# Altium footprint library custom-case.PcbLib: 44 footprints (part 1 of 3)
Each footprint in its own frame and in the unit in brackets; x right, y up, seen from the top. Pads: shape width x height; smd on the part's side, far side on the other; paste and mask are expansions set on the pad; w line width, h text height; cw(c..) or ccw(c..) is an arc to the next point about the centre after c.
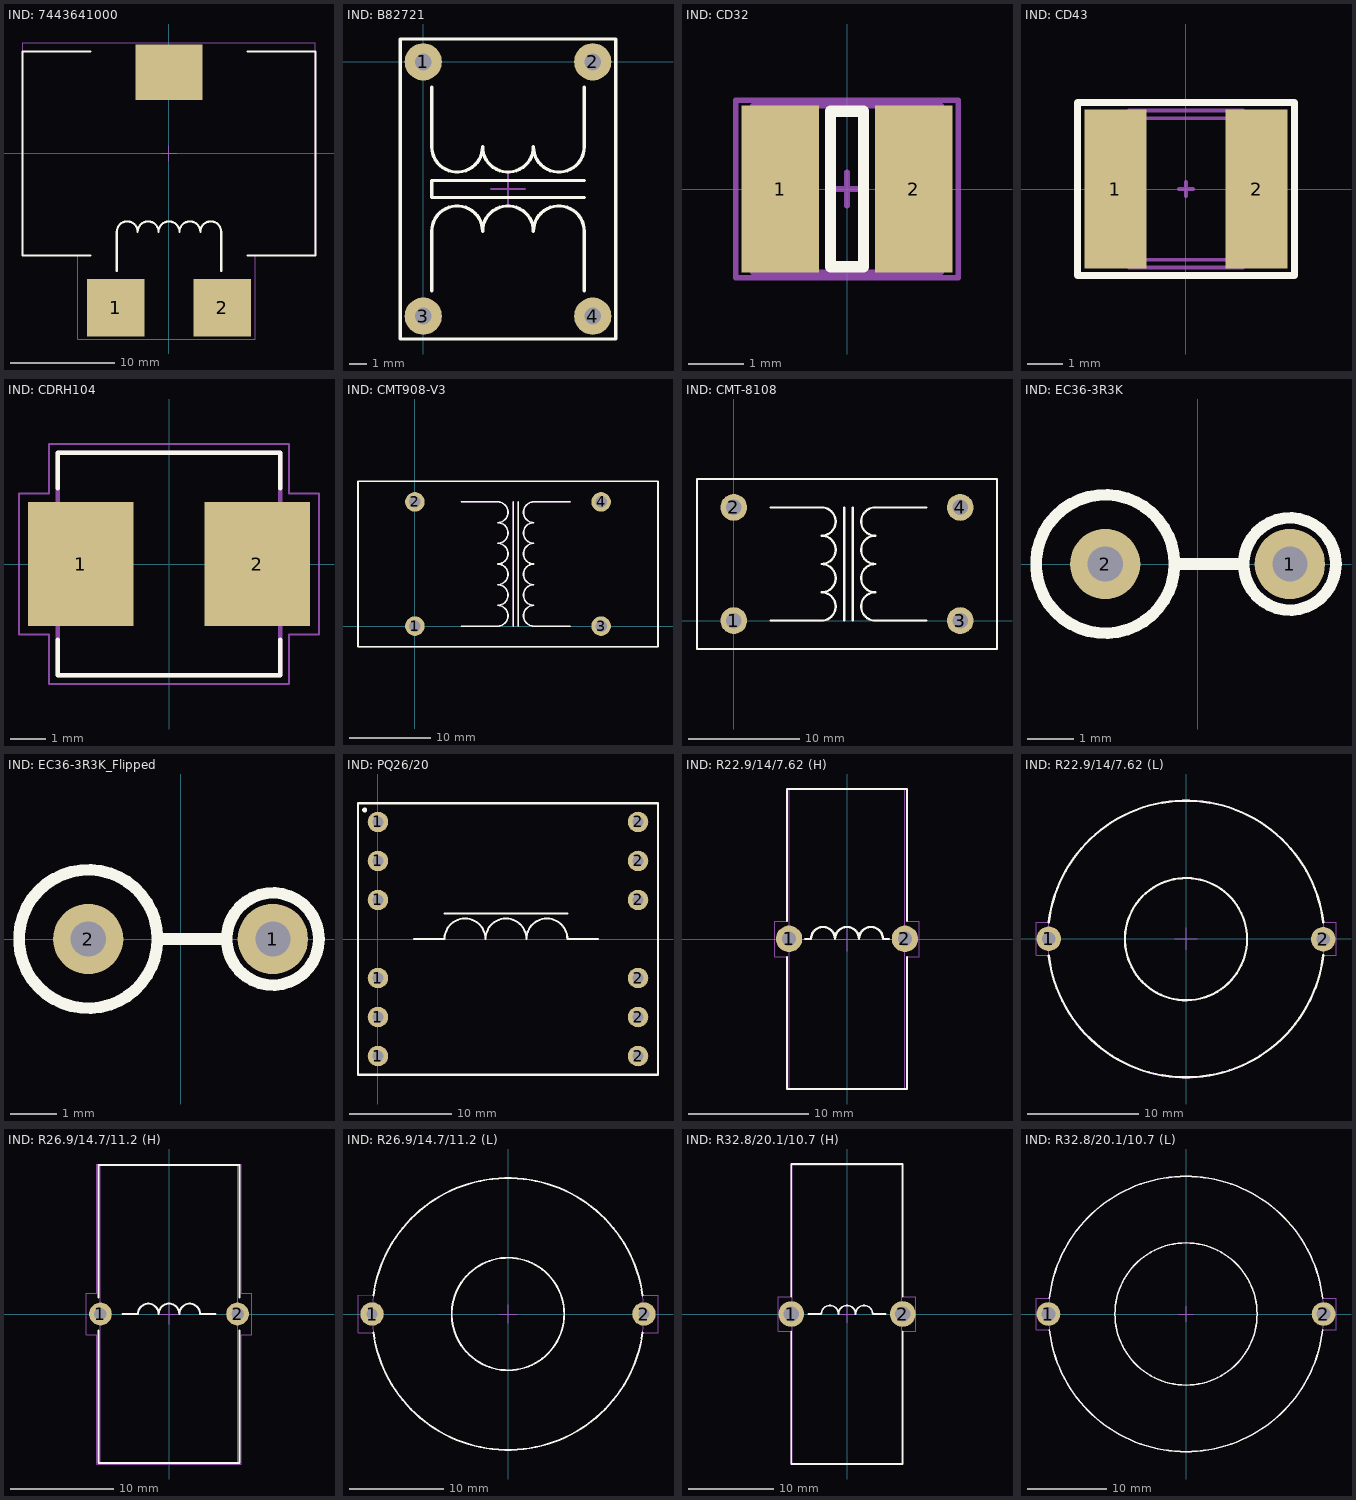
[diagram p0: the footprints below, top view; thin cyan lines are the x and y axes]

## IND: 7443641000 [mm]
height 3.2
pads (3):
  rect 5.5x5.5 smd: 1(-5.1,-14.75) 2(5.1,-14.75)
  rect 6.4x5.3 smd: ""(0,7.75)
Top Overlay:
  lines w0.2: -7.5,-9.75 -14,-9.75 -14,9.75 -7.5,9.75 ; -5,-11.25 -5,-7.5 cw(c-4,-7.5) -3,-7.5 cw(c-2,-7.5) -1,-7.5 cw(c0,-7.5) 1,-7.5 cw(c2,-7.5) 3,-7.5 cw(c4,-7.5) 5,-7.5 5,-11.25 ; 7.5,-9.75 14,-9.75 14,9.75 7.5,9.75
Top Assy:
  lines w0.1: -14,-9.75 -8.75,-9.75 -8.75,-17.75 8.25,-17.75 8.25,-9.75 14,-9.75 14,10.6 -14,10.6 -14,-9.75
Size Area:
  lines w0.1: -0.75,0 0.75,0 ; 0,-0.75 0,0.75 ; -14,-9.75 -8.75,-9.75 -8.75,-17.75 8.25,-17.75 8.25,-9.75 14,-9.75 14,10.6 -14,10.6 -14,-9.75
3D body "STEP-WE-HCF-2818-rev1.stp": height 18.55, standoff 0.03, extent -14,-16.4 14,10.6

## IND: B82721 [mm]
pads (4):
  round 2.2 hole 1 mask+0.075: 1(0,0) 2(10,0) 3(0,-15) 4(10,-15)
Top Overlay:
  lines w0.2: 0.5,-13.5 0.5,-10 cw(c2,-10) 3.5,-10 cw(c5,-10) 6.5,-10 cw(c8,-10) 9.5,-10 9.5,-13.5 ; 0.5,-1.5 0.5,-5 ccw(c2,-5) 3.5,-5 ccw(c5,-5) 6.5,-5 ccw(c8,-5) 9.5,-5 9.5,-1.5 ; 9.5,-8 0.5,-8 0.5,-7 9.5,-7 ; -1.35,-16.35 -1.35,1.35 11.35,1.35 11.35,-16.35 -1.35,-16.35
Top Assy:
  lines w0.1: 0.5,-13.5 0.5,-10 cw(c2,-10) 3.5,-10 cw(c5,-10) 6.5,-10 cw(c8,-10) 9.5,-10 9.5,-13.5 ; 0.5,-1.5 0.5,-5 ccw(c2,-5) 3.5,-5 ccw(c5,-5) 6.5,-5 ccw(c8,-5) 9.5,-5 9.5,-1.5 ; 9.5,-8 0.5,-8 0.5,-7 9.5,-7 ; -1.35,-16.35 -1.35,1.35 11.35,1.35 11.35,-16.35 -1.35,-16.35
Size Area:
  lines w0.1: 4,-7.5 6,-7.5 ; 5,-8.5 5,-6.5 ; -1.35,-16.35 -1.35,1.35 11.35,1.35 11.35,-16.35 -1.35,-16.35
3D body "User Library-CHK_B82721K.STEP": height 20.3, standoff -3, extent -1.35,-16.347 11.35,1.348

## IND: CD32 [mm]
pads (2):
  rect 1.4x3 smd mask+0.075: 1(-1.2,0) 2(1.2,0)
Top Overlay:
  lines w0.2: -0.3,-1.4 0.3,-1.4 0.3,1.4 -0.3,1.4 -0.3,-1.4
3D model:
  lines w0.1: -1.7,-1.5 1.7,-1.5 1.7,1.5 -1.7,1.5 -1.7,-1.5
Size Area:
  lines w0.1: -0.3,0 0.3,0 ; 0,-0.3 0,0.3 ; -2,-1.6 -2,1.6 2,1.6 2,-1.6 -2,-1.6
3D body "Inductor_CD32.STEP": height 2.1, standoff 0, extent -1.679,-1.5 1.679,1.5

## IND: CD43 [mm]
height 3.2
pads (2):
  rect 1.75x4.5 smd: 1(-2,0) 2(2,0)
Top Overlay:
  lines w0.2: -3.075,-2.45 3.075,-2.45 3.075,2.45 -3.075,2.45 -3.075,-2.45
Top Assy:
  lines w0.1: -1.5,-2 cw(c0,0) -1.5,2 1.5,2 cw(c0,0) 1.5,-2 -1.5,-2
Size Area:
  lines w0.1: -0.2,0 0.2,0 ; 0,-0.2 0,0.2 ; -1.617,-2.224 cw(c0,0) -1.617,2.224 1.617,2.224 cw(c0,0) 1.617,-2.224 -1.617,-2.224
3D body "CD43.STEP": height 3.2, standoff 0, extent -2.244,-2 2.244,2

## IND: CDRH104 [mm]
pads (2):
  rect 3x3.5 smd: 1(-2.5,0) 2(2.5,0)
Top Overlay:
  lines w0.127: -3.15,-2.15 -3.15,-3.15 3.15,-3.15 3.15,-2.15 ; -3.15,2.15 -3.15,3.15 3.15,3.15 3.15,2.15
3D model:
  lines w0.127: -3.15,-3.15 -3.15,3.15 3.15,3.15 3.15,-3.15 -3.15,-3.15
Size Area:
  lines w0.05: -4.25,-2 -3.4,-2 -3.4,-3.4 3.4,-3.4 3.4,-2 4.25,-2 4.25,2 3.4,2 3.4,3.4 -3.4,3.4 -3.4,2 -4.25,2 -4.25,-2
3D body "step_temp.STEP": height 5, standoff 0, extent -3.15,-3.15 3.15,3.15

## IND: CMT908-V3 [mm]
pads (4):
  round 2.4 hole 1.4: 1(0,0) 2(0,15.24) 3(22.86,0) 4(22.86,15.24)
Top Overlay:
  lines w0.2: 5.715,0 10.16,0 ccw(c10.16,1.27) 10.16,2.54 ccw(c10.16,3.81) 10.16,5.08 ccw(c10.16,6.35) 10.16,7.62 ccw(c10.16,8.89) 10.16,10.16 ccw(c10.16,11.43) 10.16,12.7 ccw(c10.16,13.97) 10.16,15.24 5.715,15.24 ; 12.065,0 12.065,15.24 ; 12.7,0 12.7,15.24 ; 19.05,0 14.605,0 cw(c14.605,1.27) 14.605,2.54 cw(c14.605,3.81) 14.605,5.08 cw(c14.605,6.35) 14.605,7.62 cw(c14.605,8.89) 14.605,10.16 cw(c14.605,11.43) 14.605,12.7 cw(c14.605,13.97) 14.605,15.24 19.05,15.24 ; -6.985,-2.54 -6.985,17.78 29.845,17.78 29.845,-2.54 -6.985,-2.54
Top Assy:
  lines w0.1: 5.715,0 10.16,0 ccw(c10.16,1.27) 10.16,2.54 ccw(c10.16,3.81) 10.16,5.08 ccw(c10.16,6.35) 10.16,7.62 ccw(c10.16,8.89) 10.16,10.16 ccw(c10.16,11.43) 10.16,12.7 ccw(c10.16,13.97) 10.16,15.24 5.715,15.24 ; 12.065,0 12.065,15.24 ; 12.7,0 12.7,15.24 ; 19.05,0 14.605,0 cw(c14.605,1.27) 14.605,2.54 cw(c14.605,3.81) 14.605,5.08 cw(c14.605,6.35) 14.605,7.62 cw(c14.605,8.89) 14.605,10.16 cw(c14.605,11.43) 14.605,12.7 cw(c14.605,13.97) 14.605,15.24 19.05,15.24 ; -6.985,-2.54 -6.985,17.78 29.845,17.78 29.845,-2.54 -6.985,-2.54
Size Area:
  lines w0.1: -6.985,-2.54 -6.985,17.78 29.845,17.78 29.845,-2.54 -6.985,-2.54
3D body "Triad Magnetics-CMT908-V3.STEP": height 38.18, standoff -4.67, extent -6.985,-2.54 29.845,17.78

## IND: CMT-8108 [mm]
pads (4):
  round 2.4 hole 1.4: 1(0,0) 2(0,10.16) 3(20.32,0) 4(20.32,10.16)
Top Overlay:
  lines w0.2: 3.302,0 7.874,0 ccw(c7.874,1.27) 7.874,2.54 ccw(c7.874,3.81) 7.874,5.08 ccw(c7.874,6.35) 7.874,7.62 ccw(c7.874,8.89) 7.874,10.16 3.302,10.16 ; 9.906,0 9.906,10.16 ; 10.668,0 10.668,10.16 ; 17.272,0 12.7,0 cw(c12.7,1.27) 12.7,2.54 cw(c12.7,3.81) 12.7,5.08 cw(c12.7,6.35) 12.7,7.62 cw(c12.7,8.89) 12.7,10.16 17.272,10.16 ; -3.302,-2.54 -3.302,12.7 23.622,12.7 23.622,-2.54 -3.302,-2.54
Top Assy:
  lines w0.1: 3.302,0 7.874,0 ccw(c7.874,1.27) 7.874,2.54 ccw(c7.874,3.81) 7.874,5.08 ccw(c7.874,6.35) 7.874,7.62 ccw(c7.874,8.89) 7.874,10.16 3.302,10.16 ; 9.906,0 9.906,10.16 ; 10.668,0 10.668,10.16 ; 17.272,0 12.7,0 cw(c12.7,1.27) 12.7,2.54 cw(c12.7,3.81) 12.7,5.08 cw(c12.7,6.35) 12.7,7.62 cw(c12.7,8.89) 12.7,10.16 17.272,10.16 ; -3.302,-2.54 -3.302,12.7 23.622,12.7 23.622,-2.54 -3.302,-2.54
Size Area:
  lines w0.1: -3.302,-2.54 -3.302,12.7 23.622,12.7 23.622,-2.54 -3.302,-2.54
3D body "CMT-8108.STEP": height 30.67, standoff -3.64, extent -5.08,-2.54 25.4,12.7

## IND: EC36-3R3K [mil] "Inductor up"
pads (2):
  round 60 hole 30: 1(78.74,0) 2(-78.74,0)
Top Overlay:
  circle w10: c78.74,0 r39.37
  circle w10: c-78.74,0 r59.06
  lines w10: -19.29,0 39.37,0
3D body "EC36-3R3K.SLDPRT": height 562.95, standoff -78.74, extent -137.52,-58.43 84.65,58.9

## IND: EC36-3R3K_Flipped [mil] "Inductor down"
pads (2):
  round 60 / inner round 60 / far side round 0 hole 30 unplated: 1(78.74,0) 2(-78.74,0)
Top Overlay:
  circle w10: c-78.74,0 r59.06
  circle w10: c78.74,0 r39.37
  lines w10: -19.29,0 39.37,0
3D body "EC36-3R3K.SLDPRT": height 39.37, standoff -602.32, extent -137.52,-58.9 84.65,58.43

## IND: PQ26/20 [mm]
pads (13):
  round 2 hole 1.1: 1(0,-11.43) 1(0,-7.62) 1(0,-3.81) 1(0,3.81) 1(0,7.62) 1(0,11.43) 2(25.4,-11.43) 2(25.4,-7.62) 2(25.4,-3.81) 2(25.4,3.81) 2(25.4,7.62) 2(25.4,11.43)
  round 0.5 on Top Overlay: ""(-1.3,12.6)
Top Overlay:
  lines w0.2: 3.5,0 6.5,0 cw(c8.5,0) 10.5,0 cw(c12.5,0) 14.5,0 cw(c16.5,0) 18.5,0 21.5,0 ; 6.5,2.5 18.5,2.5 ; -1.95,-13.26 -1.95,13.26 27.35,13.26 27.35,-13.26 -1.95,-13.26
Top Assy:
  lines w0.1: 3.5,0 6.5,0 cw(c8.5,0) 10.5,0 cw(c12.5,0) 14.5,0 cw(c16.5,0) 18.5,0 21.5,0 ; 6.5,2.5 18.5,2.5 ; -1.95,-13.26 -1.95,13.26 27.35,13.26 27.35,-13.26 -1.95,-13.26
Size Area:
  lines w0.1: -1.95,-13.26 -1.95,13.26 27.35,13.26 27.35,-13.26 -1.95,-13.26
3D body "EPCOS_pq2620.step": height 25.1, standoff -3.6, extent -1.95,-13.26 27.35,13.26

## IND: R22.9/14/7.62 (H) [mm]
pads (2):
  round 2.2 hole 1.2: 1(-4.83,0.015) 2(4.83,0.015)
Top Overlay:
  lines w0.2: -5,-1.5 -5,-12.5 5,-12.5 5,-1.5 ; -5,1.5 -5,12.5 5,12.5 5,1.5 ; -3.5,0 -3,0 cw(c-2,0) -1,0 cw(c0,0) 1,0 cw(c2,0) 3,0 3.5,0
Top Assy:
  lines w0.1: -4,0 -3,0 cw(c-2,0) -1,0 cw(c0,0) 1,0 cw(c2,0) 3,0 4,0 ; -4.83,-12.455 4.83,-12.455 4.83,12.485 -4.83,12.485 -4.83,-12.455
Size Area:
  lines w0.1: -1,0 1,0 ; 0,-1 0,1 ; -6,-1.5 -6,1.5 -5,1.5 -5,12.5 5,12.5 5,1.5 6,1.5 6,-1.5 5,-1.5 5,-12.5 -5,-12.5 -5,-1.5 -6,-1.5
3D body "F1 R 22.9 x 14 x 7.62Kool Mu .step": height 24.77, standoff -0.17, extent -4.83,-12.47 4.83,12.47

## IND: R22.9/14/7.62 (L) [mm]
pads (2):
  round 2.2 hole 1.2: 1(-12.349,0) 2(12.349,-0.03)
Top Overlay:
  circle w0.2: c0,-0.03 r5.5
  lines w0.2: -12.354,-1.49 ccw(c0,-0.03) 12.355,-1.483 ; -12.349,1.499 cw(c0,0) 12.349,1.499
Top Assy:
  circle w0.1: c0,-0.03 r12.47
  circle w0.1: c0,-0.03 r5.5
Size Area:
  lines w0.1: -1,0 1,0 ; 0,-1 0,1 ; -13.5,-1.483 -13.5,1.483 -12.355,1.483 cw(c0,0.03) 12.355,1.483 13.5,1.5 13.5,-1.483 12.5,-1.483 12.355,-1.483 cw(c0,-0.03) -12.355,-1.483 -13.5,-1.483
3D body "F1 R 22.9 x 14 x 7.62Kool Mu .step": height 9.72, standoff 0.06, extent -12.47,-12.47 12.47,12.47

## IND: R26.9/14.7/11.2 (H) [mm]
pads (2):
  round 2.2 hole 1.2: 1(-6.626,0) 2(6.626,0)
Top Overlay:
  lines w0.2: -6.8,-1.6 -6.8,-14.4 6.8,-14.4 6.8,-1.6 ; -6.8,1.6 -6.8,14.4 6.8,14.4 6.8,1.6 ; -4.5,0 -3,0 cw(c-2,0) -1,0 cw(c0,0) 1,0 cw(c2,0) 3,0 4.5,0
Top Assy:
  lines w0.1: -4.5,0 -3,0 cw(c-2,0) -1,0 cw(c0,0) 1,0 cw(c2,0) 3,0 4.5,0 ; -6.626,-14.476 -6.626,14.476 6.626,14.476 6.626,-14.476 -6.626,-14.476
Size Area:
  lines w0.1: -1,0 1,0 ; 0,-1 0,1 ; -8,-2 -8,2 -7,2 -7,14.5 7,14.5 7,2 8,2 8,1.5 8,-2 7,-2 7,-14.5 -7,-14.5 -7,-2 -8,-2
3D body "F2 R 26.9 x 14.7 x 11.2 v1.step": height 28.98, standoff 0.02, extent -6.626,-14.476 6.626,14.476

## IND: R26.9/14.7/11.2 (L) [mm]
pads (2):
  round 2.5 hole 1.2: 1(-14.5,0) 2(14.5,0)
Top Overlay:
  circle w0.2: c0,0 r6
  lines w0.2: -14.364,-1.981 ccw(c0,0) 14.364,-1.981 ; -14.364,1.981 cw(c0,0) 14.364,1.981
Top Assy:
  circle w0.1: c0,0 r14.5
  circle w0.1: c0,0 r6
Size Area:
  lines w0.1: -14.361,2.051 -16,2 -16,-2 -14.361,-2.001 ccw(c0,0) 14.361,-2 16,-2 16,1.998 14.362,1.998 ccw(c0,0) -14.354,2.051 ; -1,0 1,0 ; 0,-1 0,1
3D body "F2 R 26.9 x 14.7 x 11.2 v1.step": height 13.33, standoff 0.07, extent -14.5,-14.476 14.452,14.476

## IND: R32.8/20.1/10.7 (H) [mm]
pads (2):
  round 3 hole 1.8: 1(-6.5,0) 2(6.5,0)
Top Overlay:
  lines w0.2: -6.5,-2 -6.5,-17.5 6.5,-17.5 6.5,-2 ; -6.5,2 -6.5,17.5 6.5,17.5 6.5,2 ; -4.5,0 -3,0 cw(c-2,0) -1,0 cw(c0,0) 1,0 cw(c2,0) 3,0 4.5,0
Top Assy:
  lines w0.1: -4.5,0 -3,0 cw(c-2,0) -1,0 cw(c0,0) 1,0 cw(c2,0) 3,0 4.5,0 ; -6.376,-17.426 6.376,-17.426 6.376,17.426 -6.376,17.426 -6.376,-17.426
Size Area:
  lines w0.1: -1,0 1,0 ; 0,-1 0,1 ; -8,-2 -8,2 -6.5,2 -6.5,17.5 6.5,17.5 6.5,2 8,2 8,-2 6.5,-2 6.5,-17.5 -6.5,-17.5 -6.5,-2 -8,-2
3D body "F3 R 32.8 x 20.1 x 10.7 v1.step": height 34.9, standoff 0.1, extent -6.376,-17.426 6.376,17.426

## IND: R32.8/20.1/10.7 (L) [mm]
pads (2):
  round 3 hole 1.8: 1(-17.427,0) 2(17.425,0)
Top Overlay:
  circle w0.2: c0,0 r9
  lines w0.2: -17.313,-1.987 ccw(c0,0) 17.313,-1.987 ; -17.313,1.987 cw(c0,0) 17.313,1.987
Top Assy:
  circle w0.1: c0,0 r17.427
  circle w0.1: c0,0 r9
Size Area:
  lines w0.1: -1,0 1,0 ; 0,-1 0,1 ; -19,-2 -17.312,-2 ccw(c0,0) 17.316,-1.966 19,-2 19,1.966 17.316,1.966 ccw(c0,0) -17.312,2 -19,2 -19,-2
3D body "F3 R 32.8 x 20.1 x 10.7 v1.step": height 12.84, standoff 0.08, extent -17.427,-17.396 17.425,17.396